# Altium footprint library Project_Oshinoko.PcbLib: 202 footprints (part 6 of 13)
Each footprint in its own frame and in the unit in brackets; x right, y up, seen from the top. Pads: shape width x height; smd on the part's side, far side on the other; paste and mask are expansions set on the pad; w line width, h text height; cw(c..) or ccw(c..) is an arc to the next point about the centre after c.
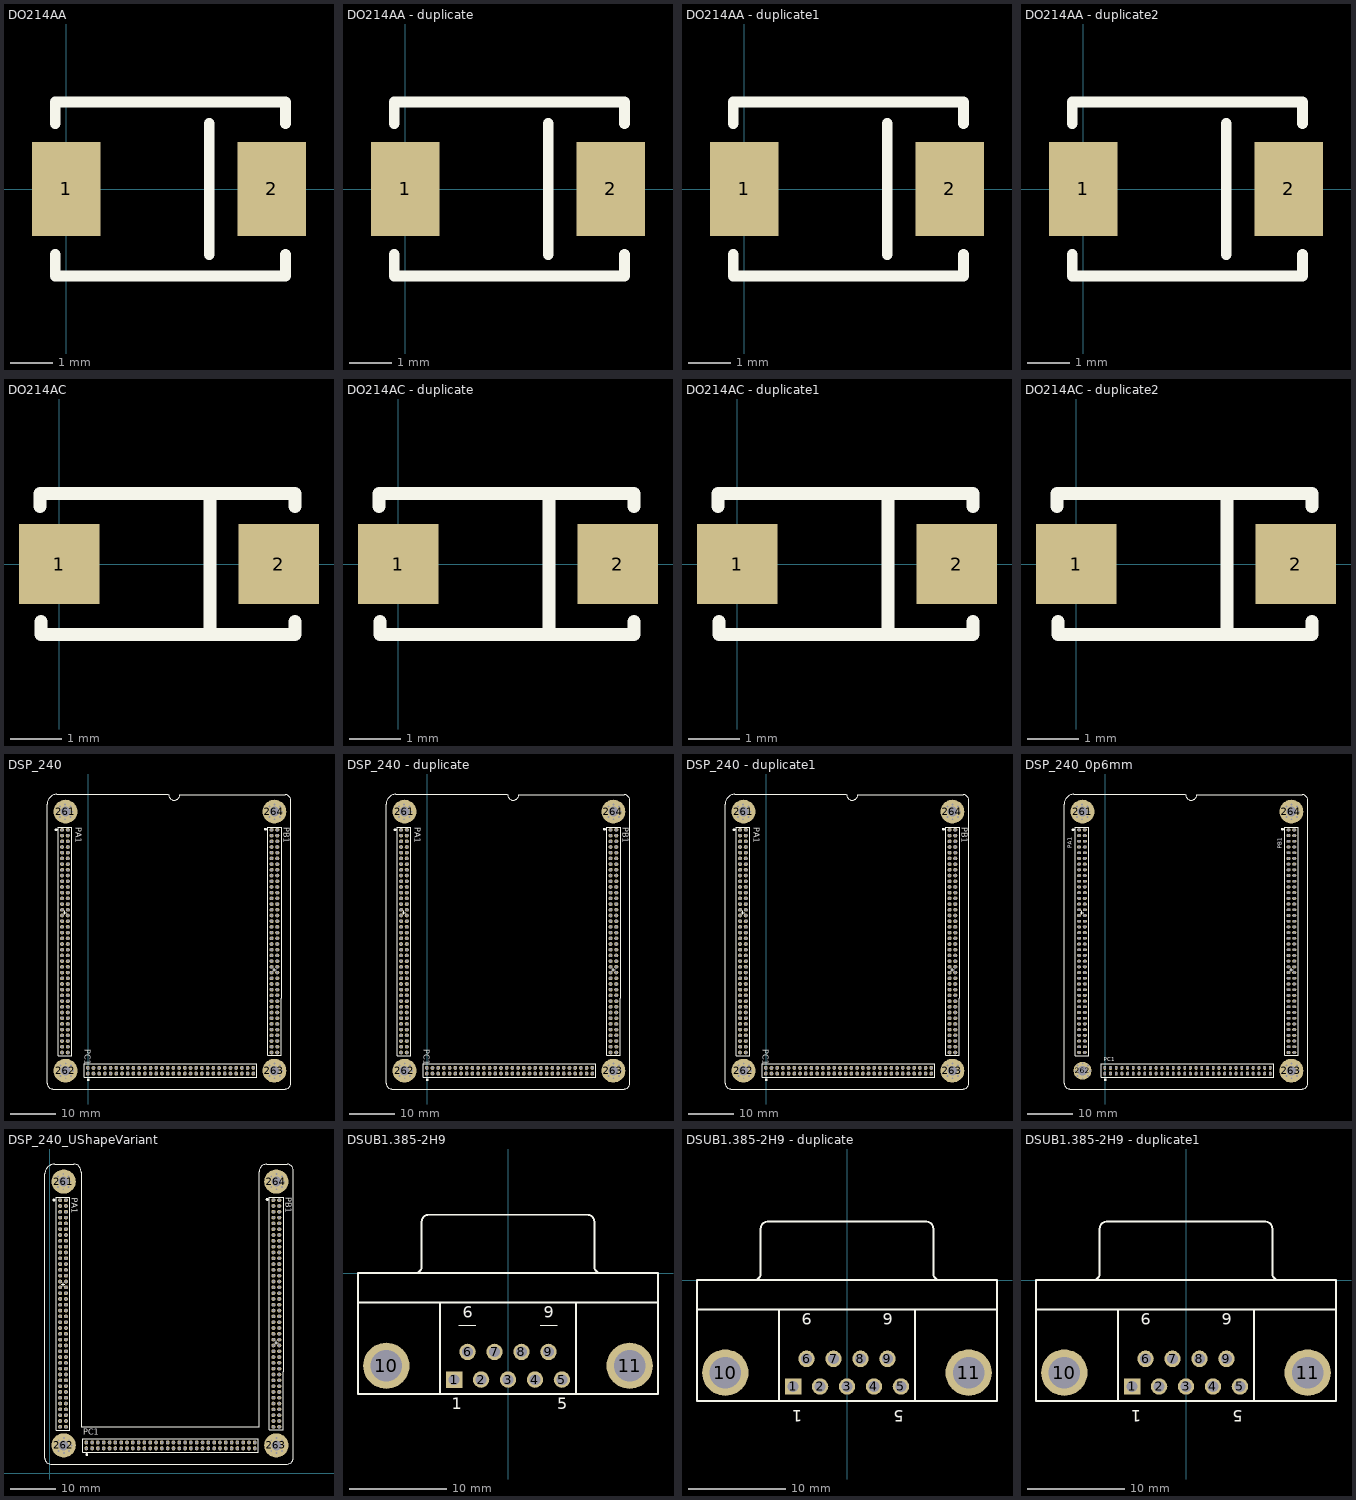
[diagram p5: the footprints below, top view; thin cyan lines are the x and y axes]

## DO214AA [mm]
pads (2):
  rect 1.6x2.2 smd: 1(-0.007,0.007) 2(4.793,0.007)
Top Overlay:
  lines w0.254: -0.261,-1.517 -0.261,-1.771 -0.261,-2.025 5.111,-2.025 5.111,-1.517 ; -0.261,1.531 -0.261,2.039 5.111,2.039 5.111,1.531 ; 3.333,-1.517 3.333,1.531

## DO214AA - duplicate [mm]
pads (2):
  rect 1.6x2.2 smd: 1(-0.007,0.007) 2(4.793,0.007)
Top Overlay:
  lines w0.254: -0.261,-1.517 -0.261,-1.771 -0.261,-2.025 5.111,-2.025 5.111,-1.517 ; -0.261,1.531 -0.261,2.039 5.111,2.039 5.111,1.531 ; 3.333,-1.517 3.333,1.531

## DO214AA - duplicate1 [mm]
pads (2):
  rect 1.6x2.2 smd: 1(-0.007,0.007) 2(4.793,0.007)
Top Overlay:
  lines w0.254: -0.261,-1.517 -0.261,-1.771 -0.261,-2.025 5.111,-2.025 5.111,-1.517 ; -0.261,1.531 -0.261,2.039 5.111,2.039 5.111,1.531 ; 3.333,-1.517 3.333,1.531

## DO214AA - duplicate2 [mm]
pads (2):
  rect 1.6x2.2 smd: 1(-0.007,0.007) 2(4.793,0.007)
Top Overlay:
  lines w0.254: -0.261,-1.517 -0.261,-1.771 -0.261,-2.025 5.111,-2.025 5.111,-1.517 ; -0.261,1.531 -0.261,2.039 5.111,2.039 5.111,1.531 ; 3.333,-1.517 3.333,1.531

## DO214AC [mil]
pads (2):
  rect 62x62 smd: 1(-0.04,0.18) 2(169.25,0.18)
Top Overlay:
  lines w10: -14.68,44.59 -14.68,54.59 181.78,54.59 181.78,44.59 ; -13.97,-44.23 -13.97,-54.23 181.78,-54.23 181.78,-44.23 ; 116.11,-54.23 116.11,54.59

## DO214AC - duplicate [mil]
pads (2):
  rect 62x62 smd: 1(-0.04,0.18) 2(169.25,0.18)
Top Overlay:
  lines w10: -14.68,44.59 -14.68,54.59 181.78,54.59 181.78,44.59 ; -13.97,-44.23 -13.97,-54.23 181.78,-54.23 181.78,-44.23 ; 116.11,-54.23 116.11,54.59

## DO214AC - duplicate1 [mil]
pads (2):
  rect 62x62 smd: 1(-0.04,0.18) 2(169.25,0.18)
Top Overlay:
  lines w10: -14.68,44.59 -14.68,54.59 181.78,54.59 181.78,44.59 ; -13.97,-44.23 -13.97,-54.23 181.78,-54.23 181.78,-44.23 ; 116.11,-54.23 116.11,54.59

## DO214AC - duplicate2 [mil]
pads (2):
  rect 62x62 smd: 1(-0.04,0.18) 2(169.25,0.18)
Top Overlay:
  lines w10: -14.68,44.59 -14.68,54.59 181.78,54.59 181.78,44.59 ; -13.97,-44.23 -13.97,-54.23 181.78,-54.23 181.78,-44.23 ; 116.11,-54.23 116.11,54.59

## DSP_240 [mil]
pads (224):
  oval 36x31.5 hole 25.59: 1(-230,2660) 2(-180,2660) 3(-230,2610) 4(-180,2610) 5(-230,2560) 6(-180,2560) 7(-230,2510) 8(-180,2510) 9(-230,2460) 10(-180,2460) 11(-230,2410) 12(-180,2410) 13(-230,2360) 14(-180,2360) 15(-230,2310) 16(-180,2310) 17(-230,2260) 18(-180,2260) 19(-230,2210) 20(-180,2210) 21(-230,2160) 22(-180,2160) 23(-230,2110) 24(-180,2110) 25(-230,2060) 26(-180,2060) 27(-230,2010) 28(-180,2010) 29(-230,1960) 30(-180,1960) 31(-230,1910) 32(-180,1910) 33(-230,1860) 34(-180,1860) 35(-230,1810) 36(-180,1810) 37(-230,1760) 38(-180,1760) 39(-230,1710) 40(-180,1710) 41(-230,1660) 42(-180,1660) 43(-230,1610) 44(-180,1610) 45(-230,1560) 46(-180,1560) 47(-230,1510) 48(-180,1510) 49(-230,1460) 50(-180,1460) 51(-230,1410) 52(-180,1410) 53(-230,1360) 54(-180,1360) 55(-230,1310) 56(-180,1310) 57(-230,1260) 58(-180,1260) 59(-230,1210) 60(-180,1210) 61(-230,1160) 62(-180,1160) 63(-230,1110) 64(-180,1110) 65(-230,1060) 66(-180,1060) 67(-230,1010) 68(-180,1010) 69(-230,960) 70(-180,960) 71(-230,910) 72(-180,910) 73(-230,860) 74(-180,860) 75(-230,810) 76(-180,810) 77(-230,760) 78(-180,760) 79(-230,710) 80(-180,710) 81(1605,2660) 82(1655,2660) 83(1605,2610) 84(1655,2610) 85(1605,2560) 86(1655,2560) 87(1605,2510) 88(1655,2510) 89(1605,2460) 90(1655,2460) 91(1605,2410) 92(1655,2410) 93(1605,2360) 94(1655,2360) 95(1605,2310) 96(1655,2310) 97(1605,2260) 98(1655,2260) 99(1605,2210) 100(1655,2210) 101(1605,2160) 102(1655,2160) 103(1605,2110) 104(1655,2110) 105(1605,2060) 106(1655,2060) 107(1605,2010) 108(1655,2010) 109(1605,1960) 110(1655,1960) 111(1605,1910) 112(1655,1910) 113(1605,1860) 114(1655,1860) 115(1605,1810) 116(1655,1810) 117(1605,1760) 118(1655,1760) 119(1605,1710) 120(1655,1710) 121(1605,1660) 122(1655,1660) 123(1605,1610) 124(1655,1610) 125(1605,1560) 126(1655,1560) 127(1605,1510) 128(1655,1510) 129(1605,1460) 130(1655,1460) 131(1605,1410) 132(1655,1410) 133(1605,1360) 134(1655,1360) 135(1605,1310) 136(1655,1310) 137(1605,1260) 138(1655,1260) 139(1605,1210) 140(1655,1210) 141(1605,1160) 142(1655,1160) 143(1605,1110) 144(1655,1110) 145(1605,1060) 146(1655,1060) 147(1605,1010) 148(1655,1010) 149(1605,960) 150(1655,960) 151(1605,910) 152(1655,910) 153(1605,860) 154(1655,860) 155(1605,810) 156(1655,810) 157(1605,760) 158(1655,760) 159(1605,710) 160(1655,710)
  oval 31.5x36 hole 25.59: 161(-5,525) 162(-5,575) 163(45,525) 164(45,575) 165(95,525) 166(95,575) 167(145,525) 168(145,575) 169(195,525) 170(195,575) 171(245,525) 172(245,575) 173(295,525) 174(295,575) 175(345,525) 176(345,575) 177(395,525) 178(395,575) 179(445,525) 180(445,575) 181(495,525) 182(495,575) 183(545,525) 184(545,575) 185(595,525) 186(595,575) 187(645,525) 188(645,575) 189(695,525) 190(695,575) 191(745,525) 192(745,575) 193(795,525) 194(795,575) 195(845,525) 196(845,575) 197(895,525) 198(895,575) 199(945,525) 200(945,575) 201(995,525) 202(995,575) 203(1045,525) 204(1045,575) 205(1095,525) 206(1095,575) 207(1145,525) 208(1145,575) 209(1195,525) 210(1195,575) 211(1245,525) 212(1245,575) 213(1295,525) 214(1295,575) 215(1345,525) 216(1345,575) 217(1395,525) 218(1395,575) 219(1445,525) 220(1445,575)
  round 208.66 hole 86.61: 261(-200,2820) 262(-200,550) 263(1630,550) 264(1630,2820)
via 1677.62,2772.66 diameter 25 hole 16
via 1566.65,2818.62 diameter 25 hole 16
via 1631.65,2753.62 diameter 25 hole 16
via 1696.65,2818.62 diameter 25 hole 16
via 1585.69,2864.58 diameter 25 hole 16
via 1585.69,2772.66 diameter 25 hole 16
via 1677.62,2864.58 diameter 25 hole 16
via 1631.65,2883.62 diameter 25 hole 16
via 1677.62,502.66 diameter 25 hole 16
via 1566.65,548.62 diameter 25 hole 16
via 1631.65,483.62 diameter 25 hole 16
via 1696.65,548.62 diameter 25 hole 16
via 1585.69,594.58 diameter 25 hole 16
via 1585.69,502.66 diameter 25 hole 16
via 1677.62,594.58 diameter 25 hole 16
via 1631.65,613.62 diameter 25 hole 16
via -198.35,613.62 diameter 25 hole 16
via -152.38,594.58 diameter 25 hole 16
via -244.31,502.66 diameter 25 hole 16
via -244.31,594.58 diameter 25 hole 16
via -133.35,548.62 diameter 25 hole 16
via -198.35,483.62 diameter 25 hole 16
via -263.35,548.62 diameter 25 hole 16
via -152.38,502.66 diameter 25 hole 16
via -203.35,2883.62 diameter 25 hole 16
via -157.38,2864.58 diameter 25 hole 16
via -157.38,2772.66 diameter 25 hole 16
via -249.31,2772.66 diameter 25 hole 16
via -249.31,2864.58 diameter 25 hole 16
via -138.35,2818.62 diameter 25 hole 16
via -203.35,2753.62 diameter 25 hole 16
via -268.35,2818.62 diameter 25 hole 16
Top Overlay:
  circle w15: c-1,471 r5
  circle w15: c1551,2666 r5
  circle w15: c-284,2661 r5
  lines w5: -360.83,2135 -360.83,2885.3 cw(c-275.11,2885.3) -275.11,2971.01 701.46,2971.01 ; -360.83,2151.1 -360.83,440 ccw(c-310.83,440) -310.83,390 199.35,390 1725,390 ; 702.68,2968.9 ccw(c751.89,2968.9) 801.1,2968.9 1723.9,2968.9 cw(c1723.9,2918.9) 1773.9,2918.9 1773.9,2151.1 1773.9,440 cw(c1723.9,440) 1723.9,390
  lines w6: -220,1935 -190,1935 ; -205,1920 -205,1935 -205,1950 ; 1615,1435 1645,1435 ; 1630,1420 1630,1435 1630,1450
  lines w8: -264.06,680 -264.06,1185 -264.06,2685 -145.94,2685 -145.94,1185 -145.94,680 -264.06,680 ; -35,490.94 -35,609.06 1475,609.06 1475,490.94 -35,490.94 ; 1570.94,685 1689.06,685 1689.06,1185 1689.06,2685 1570.94,2685 1570.94,1185 1570.94,685
  text "PC1" at -30,740 h50
  text "PB1" at 1710,2685 h50
  text "PA1" at -110,2685 h50

## DSP_240 - duplicate [mil]
pads (224):
  oval 36x31.5 hole 25.59: 1(-230,2660) 2(-180,2660) 3(-230,2610) 4(-180,2610) 5(-230,2560) 6(-180,2560) 7(-230,2510) 8(-180,2510) 9(-230,2460) 10(-180,2460) 11(-230,2410) 12(-180,2410) 13(-230,2360) 14(-180,2360) 15(-230,2310) 16(-180,2310) 17(-230,2260) 18(-180,2260) 19(-230,2210) 20(-180,2210) 21(-230,2160) 22(-180,2160) 23(-230,2110) 24(-180,2110) 25(-230,2060) 26(-180,2060) 27(-230,2010) 28(-180,2010) 29(-230,1960) 30(-180,1960) 31(-230,1910) 32(-180,1910) 33(-230,1860) 34(-180,1860) 35(-230,1810) 36(-180,1810) 37(-230,1760) 38(-180,1760) 39(-230,1710) 40(-180,1710) 41(-230,1660) 42(-180,1660) 43(-230,1610) 44(-180,1610) 45(-230,1560) 46(-180,1560) 47(-230,1510) 48(-180,1510) 49(-230,1460) 50(-180,1460) 51(-230,1410) 52(-180,1410) 53(-230,1360) 54(-180,1360) 55(-230,1310) 56(-180,1310) 57(-230,1260) 58(-180,1260) 59(-230,1210) 60(-180,1210) 61(-230,1160) 62(-180,1160) 63(-230,1110) 64(-180,1110) 65(-230,1060) 66(-180,1060) 67(-230,1010) 68(-180,1010) 69(-230,960) 70(-180,960) 71(-230,910) 72(-180,910) 73(-230,860) 74(-180,860) 75(-230,810) 76(-180,810) 77(-230,760) 78(-180,760) 79(-230,710) 80(-180,710) 81(1605,2660) 82(1655,2660) 83(1605,2610) 84(1655,2610) 85(1605,2560) 86(1655,2560) 87(1605,2510) 88(1655,2510) 89(1605,2460) 90(1655,2460) 91(1605,2410) 92(1655,2410) 93(1605,2360) 94(1655,2360) 95(1605,2310) 96(1655,2310) 97(1605,2260) 98(1655,2260) 99(1605,2210) 100(1655,2210) 101(1605,2160) 102(1655,2160) 103(1605,2110) 104(1655,2110) 105(1605,2060) 106(1655,2060) 107(1605,2010) 108(1655,2010) 109(1605,1960) 110(1655,1960) 111(1605,1910) 112(1655,1910) 113(1605,1860) 114(1655,1860) 115(1605,1810) 116(1655,1810) 117(1605,1760) 118(1655,1760) 119(1605,1710) 120(1655,1710) 121(1605,1660) 122(1655,1660) 123(1605,1610) 124(1655,1610) 125(1605,1560) 126(1655,1560) 127(1605,1510) 128(1655,1510) 129(1605,1460) 130(1655,1460) 131(1605,1410) 132(1655,1410) 133(1605,1360) 134(1655,1360) 135(1605,1310) 136(1655,1310) 137(1605,1260) 138(1655,1260) 139(1605,1210) 140(1655,1210) 141(1605,1160) 142(1655,1160) 143(1605,1110) 144(1655,1110) 145(1605,1060) 146(1655,1060) 147(1605,1010) 148(1655,1010) 149(1605,960) 150(1655,960) 151(1605,910) 152(1655,910) 153(1605,860) 154(1655,860) 155(1605,810) 156(1655,810) 157(1605,760) 158(1655,760) 159(1605,710) 160(1655,710)
  oval 31.5x36 hole 25.59: 161(-5,525) 162(-5,575) 163(45,525) 164(45,575) 165(95,525) 166(95,575) 167(145,525) 168(145,575) 169(195,525) 170(195,575) 171(245,525) 172(245,575) 173(295,525) 174(295,575) 175(345,525) 176(345,575) 177(395,525) 178(395,575) 179(445,525) 180(445,575) 181(495,525) 182(495,575) 183(545,525) 184(545,575) 185(595,525) 186(595,575) 187(645,525) 188(645,575) 189(695,525) 190(695,575) 191(745,525) 192(745,575) 193(795,525) 194(795,575) 195(845,525) 196(845,575) 197(895,525) 198(895,575) 199(945,525) 200(945,575) 201(995,525) 202(995,575) 203(1045,525) 204(1045,575) 205(1095,525) 206(1095,575) 207(1145,525) 208(1145,575) 209(1195,525) 210(1195,575) 211(1245,525) 212(1245,575) 213(1295,525) 214(1295,575) 215(1345,525) 216(1345,575) 217(1395,525) 218(1395,575) 219(1445,525) 220(1445,575)
  round 208.66 hole 86.61: 261(-200,2820) 262(-200,550) 263(1630,550) 264(1630,2820)
via -268.35,2818.62 diameter 25 hole 16
via -203.35,2753.62 diameter 25 hole 16
via -138.35,2818.62 diameter 25 hole 16
via -249.31,2864.58 diameter 25 hole 16
via -249.31,2772.66 diameter 25 hole 16
via -157.38,2772.66 diameter 25 hole 16
via -157.38,2864.58 diameter 25 hole 16
via -203.35,2883.62 diameter 25 hole 16
via -152.38,502.66 diameter 25 hole 16
via -263.35,548.62 diameter 25 hole 16
via -198.35,483.62 diameter 25 hole 16
via -133.35,548.62 diameter 25 hole 16
via -244.31,594.58 diameter 25 hole 16
via -244.31,502.66 diameter 25 hole 16
via -152.38,594.58 diameter 25 hole 16
via -198.35,613.62 diameter 25 hole 16
via 1631.65,613.62 diameter 25 hole 16
via 1677.62,594.58 diameter 25 hole 16
via 1585.69,502.66 diameter 25 hole 16
via 1585.69,594.58 diameter 25 hole 16
via 1696.65,548.62 diameter 25 hole 16
via 1631.65,483.62 diameter 25 hole 16
via 1566.65,548.62 diameter 25 hole 16
via 1677.62,502.66 diameter 25 hole 16
via 1631.65,2883.62 diameter 25 hole 16
via 1677.62,2864.58 diameter 25 hole 16
via 1585.69,2772.66 diameter 25 hole 16
via 1585.69,2864.58 diameter 25 hole 16
via 1696.65,2818.62 diameter 25 hole 16
via 1631.65,2753.62 diameter 25 hole 16
via 1566.65,2818.62 diameter 25 hole 16
via 1677.62,2772.66 diameter 25 hole 16
Top Overlay:
  circle w15: c-284,2661 r5
  circle w15: c1551,2666 r5
  circle w15: c-1,471 r5
  lines w5: -360.83,2135 -360.83,2885.3 cw(c-275.11,2885.3) -275.11,2971.01 701.46,2971.01 ; -360.83,2151.1 -360.83,440 ccw(c-310.83,440) -310.83,390 199.35,390 1725,390 ; 702.68,2968.9 ccw(c751.89,2968.9) 801.1,2968.9 1723.9,2968.9 cw(c1723.9,2918.9) 1773.9,2918.9 1773.9,2151.1 1773.9,440 cw(c1723.9,440) 1723.9,390
  lines w6: -220,1935 -190,1935 ; -205,1920 -205,1935 -205,1950 ; 1615,1435 1645,1435 ; 1630,1420 1630,1435 1630,1450
  lines w8: -264.06,680 -145.94,680 -145.94,1185 -145.94,2685 -264.06,2685 -264.06,1185 -264.06,680 ; -35,490.94 1475,490.94 1475,609.06 -35,609.06 -35,490.94 ; 1570.94,685 1570.94,1185 1570.94,2685 1689.06,2685 1689.06,1185 1689.06,685 1570.94,685
  text "PA1" at -110,2685 h50
  text "PB1" at 1710,2685 h50
  text "PC1" at -30,740 h50

## DSP_240 - duplicate1 [mil]
pads (224):
  oval 36x31.5 hole 25.59: 1(-230,2660) 2(-180,2660) 3(-230,2610) 4(-180,2610) 5(-230,2560) 6(-180,2560) 7(-230,2510) 8(-180,2510) 9(-230,2460) 10(-180,2460) 11(-230,2410) 12(-180,2410) 13(-230,2360) 14(-180,2360) 15(-230,2310) 16(-180,2310) 17(-230,2260) 18(-180,2260) 19(-230,2210) 20(-180,2210) 21(-230,2160) 22(-180,2160) 23(-230,2110) 24(-180,2110) 25(-230,2060) 26(-180,2060) 27(-230,2010) 28(-180,2010) 29(-230,1960) 30(-180,1960) 31(-230,1910) 32(-180,1910) 33(-230,1860) 34(-180,1860) 35(-230,1810) 36(-180,1810) 37(-230,1760) 38(-180,1760) 39(-230,1710) 40(-180,1710) 41(-230,1660) 42(-180,1660) 43(-230,1610) 44(-180,1610) 45(-230,1560) 46(-180,1560) 47(-230,1510) 48(-180,1510) 49(-230,1460) 50(-180,1460) 51(-230,1410) 52(-180,1410) 53(-230,1360) 54(-180,1360) 55(-230,1310) 56(-180,1310) 57(-230,1260) 58(-180,1260) 59(-230,1210) 60(-180,1210) 61(-230,1160) 62(-180,1160) 63(-230,1110) 64(-180,1110) 65(-230,1060) 66(-180,1060) 67(-230,1010) 68(-180,1010) 69(-230,960) 70(-180,960) 71(-230,910) 72(-180,910) 73(-230,860) 74(-180,860) 75(-230,810) 76(-180,810) 77(-230,760) 78(-180,760) 79(-230,710) 80(-180,710) 81(1605,2660) 82(1655,2660) 83(1605,2610) 84(1655,2610) 85(1605,2560) 86(1655,2560) 87(1605,2510) 88(1655,2510) 89(1605,2460) 90(1655,2460) 91(1605,2410) 92(1655,2410) 93(1605,2360) 94(1655,2360) 95(1605,2310) 96(1655,2310) 97(1605,2260) 98(1655,2260) 99(1605,2210) 100(1655,2210) 101(1605,2160) 102(1655,2160) 103(1605,2110) 104(1655,2110) 105(1605,2060) 106(1655,2060) 107(1605,2010) 108(1655,2010) 109(1605,1960) 110(1655,1960) 111(1605,1910) 112(1655,1910) 113(1605,1860) 114(1655,1860) 115(1605,1810) 116(1655,1810) 117(1605,1760) 118(1655,1760) 119(1605,1710) 120(1655,1710) 121(1605,1660) 122(1655,1660) 123(1605,1610) 124(1655,1610) 125(1605,1560) 126(1655,1560) 127(1605,1510) 128(1655,1510) 129(1605,1460) 130(1655,1460) 131(1605,1410) 132(1655,1410) 133(1605,1360) 134(1655,1360) 135(1605,1310) 136(1655,1310) 137(1605,1260) 138(1655,1260) 139(1605,1210) 140(1655,1210) 141(1605,1160) 142(1655,1160) 143(1605,1110) 144(1655,1110) 145(1605,1060) 146(1655,1060) 147(1605,1010) 148(1655,1010) 149(1605,960) 150(1655,960) 151(1605,910) 152(1655,910) 153(1605,860) 154(1655,860) 155(1605,810) 156(1655,810) 157(1605,760) 158(1655,760) 159(1605,710) 160(1655,710)
  oval 31.5x36 hole 25.59: 161(-5,525) 162(-5,575) 163(45,525) 164(45,575) 165(95,525) 166(95,575) 167(145,525) 168(145,575) 169(195,525) 170(195,575) 171(245,525) 172(245,575) 173(295,525) 174(295,575) 175(345,525) 176(345,575) 177(395,525) 178(395,575) 179(445,525) 180(445,575) 181(495,525) 182(495,575) 183(545,525) 184(545,575) 185(595,525) 186(595,575) 187(645,525) 188(645,575) 189(695,525) 190(695,575) 191(745,525) 192(745,575) 193(795,525) 194(795,575) 195(845,525) 196(845,575) 197(895,525) 198(895,575) 199(945,525) 200(945,575) 201(995,525) 202(995,575) 203(1045,525) 204(1045,575) 205(1095,525) 206(1095,575) 207(1145,525) 208(1145,575) 209(1195,525) 210(1195,575) 211(1245,525) 212(1245,575) 213(1295,525) 214(1295,575) 215(1345,525) 216(1345,575) 217(1395,525) 218(1395,575) 219(1445,525) 220(1445,575)
  round 208.66 hole 86.61: 261(-200,2820) 262(-200,550) 263(1630,550) 264(1630,2820)
via 1677.62,2772.66 diameter 25 hole 16
via 1566.65,2818.62 diameter 25 hole 16
via 1631.65,2753.62 diameter 25 hole 16
via 1696.65,2818.62 diameter 25 hole 16
via 1585.69,2864.58 diameter 25 hole 16
via 1585.69,2772.66 diameter 25 hole 16
via 1677.62,2864.58 diameter 25 hole 16
via 1631.65,2883.62 diameter 25 hole 16
via 1677.62,502.66 diameter 25 hole 16
via 1566.65,548.62 diameter 25 hole 16
via 1631.65,483.62 diameter 25 hole 16
via 1696.65,548.62 diameter 25 hole 16
via 1585.69,594.58 diameter 25 hole 16
via 1585.69,502.66 diameter 25 hole 16
via 1677.62,594.58 diameter 25 hole 16
via 1631.65,613.62 diameter 25 hole 16
via -198.35,613.62 diameter 25 hole 16
via -152.38,594.58 diameter 25 hole 16
via -244.31,502.66 diameter 25 hole 16
via -244.31,594.58 diameter 25 hole 16
via -133.35,548.62 diameter 25 hole 16
via -198.35,483.62 diameter 25 hole 16
via -263.35,548.62 diameter 25 hole 16
via -152.38,502.66 diameter 25 hole 16
via -203.35,2883.62 diameter 25 hole 16
via -157.38,2864.58 diameter 25 hole 16
via -157.38,2772.66 diameter 25 hole 16
via -249.31,2772.66 diameter 25 hole 16
via -249.31,2864.58 diameter 25 hole 16
via -138.35,2818.62 diameter 25 hole 16
via -203.35,2753.62 diameter 25 hole 16
via -268.35,2818.62 diameter 25 hole 16
Top Overlay:
  circle w15: c-1,471 r5
  circle w15: c1551,2666 r5
  circle w15: c-284,2661 r5
  lines w5: -360.83,2135 -360.83,2885.3 cw(c-275.11,2885.3) -275.11,2971.01 701.46,2971.01 ; -360.83,2151.1 -360.83,440 ccw(c-310.83,440) -310.83,390 199.35,390 1725,390 ; 702.68,2968.9 ccw(c751.89,2968.9) 801.1,2968.9 1723.9,2968.9 cw(c1723.9,2918.9) 1773.9,2918.9 1773.9,2151.1 1773.9,440 cw(c1723.9,440) 1723.9,390
  lines w6: -220,1935 -190,1935 ; -205,1920 -205,1935 -205,1950 ; 1615,1435 1645,1435 ; 1630,1420 1630,1435 1630,1450
  lines w8: -264.06,680 -264.06,1185 -264.06,2685 -145.94,2685 -145.94,1185 -145.94,680 -264.06,680 ; -35,490.94 -35,609.06 1475,609.06 1475,490.94 -35,490.94 ; 1570.94,685 1689.06,685 1689.06,1185 1689.06,2685 1570.94,2685 1570.94,1185 1570.94,685
  text "PC1" at -30,740 h50
  text "PB1" at 1710,2685 h50
  text "PA1" at -110,2685 h50

## DSP_240_0p6mm [mil] "The hole size is reduced to 0.6 mm"
pads (224):
  oval 36x25 hole 23.62: 1(-230,2660) 2(-180,2660) 3(-230,2610) 4(-180,2610) 5(-230,2560) 6(-180,2560) 7(-230,2510) 8(-180,2510) 9(-230,2460) 10(-180,2460) 11(-230,2410) 12(-180,2410) 13(-230,2360) 14(-180,2360) 15(-230,2310) 16(-180,2310) 17(-230,2260) 18(-180,2260) 19(-230,2210) 20(-180,2210) 21(-230,2160) 22(-180,2160) 23(-230,2110) 24(-180,2110) 25(-230,2060) 26(-180,2060) 27(-230,2010) 28(-180,2010) 29(-230,1960) 30(-180,1960) 31(-230,1910) 32(-180,1910) 33(-230,1860) 34(-180,1860) 35(-230,1810) 36(-180,1810) 37(-230,1760) 38(-180,1760) 39(-230,1710) 40(-180,1710) 41(-230,1660) 42(-180,1660) 43(-230,1610) 44(-180,1610) 45(-230,1560) 46(-180,1560) 47(-230,1510) 48(-180,1510) 49(-230,1460) 50(-180,1460) 51(-230,1410) 52(-180,1410) 53(-230,1360) 54(-180,1360) 55(-230,1310) 56(-180,1310) 57(-230,1260) 58(-180,1260) 59(-230,1210) 60(-180,1210) 61(-230,1160) 62(-180,1160) 63(-230,1110) 64(-180,1110) 65(-230,1060) 66(-180,1060) 67(-230,1010) 68(-180,1010) 69(-230,960) 70(-180,960) 71(-230,910) 72(-180,910) 73(-230,860) 74(-180,860) 75(-230,810) 76(-180,810) 77(-230,760) 78(-180,760) 79(-230,710) 80(-180,710) 83(1605,2610) 84(1655,2610) 85(1605,2560) 86(1655,2560) 87(1605,2510) 88(1655,2510) 89(1605,2460) 90(1655,2460) 91(1605,2410) 92(1655,2410) 93(1605,2360) 94(1655,2360) 95(1605,2310) 96(1655,2310) 97(1605,2260) 98(1655,2260) 99(1605,2210) 100(1655,2210) 101(1605,2160) 102(1655,2160) 103(1605,2110) 104(1655,2110) 105(1605,2060) 106(1655,2060) 107(1605,2010) 108(1655,2010) 109(1605,1960) 110(1655,1960) 111(1605,1910) 112(1655,1910) 113(1605,1860) 114(1655,1860) 115(1605,1810) 116(1655,1810) 117(1605,1760) 118(1655,1760) 119(1605,1710) 120(1655,1710) 121(1605,1660) 122(1655,1660) 123(1605,1610) 124(1655,1610) 125(1605,1560) 126(1655,1560) 127(1605,1510) 128(1655,1510) 129(1605,1460) 130(1655,1460) 131(1605,1410) 132(1655,1410) 133(1605,1360) 134(1655,1360) 135(1605,1310) 136(1655,1310) 137(1605,1260) 138(1655,1260) 139(1605,1210) 140(1655,1210) 141(1605,1160) 142(1655,1160) 143(1605,1110) 144(1655,1110) 145(1605,1060) 146(1655,1060) 147(1605,1010) 148(1655,1010) 149(1605,960) 150(1655,960) 151(1605,910) 152(1655,910) 153(1605,860) 154(1655,860) 155(1605,810) 156(1655,810) 157(1605,760) 158(1655,760) 159(1605,710) 160(1655,710)
  oval 36x25 hole 25.59: 81(1605,2660) 82(1655,2660)
  oval 25x36 hole 23.62: 161(-5,525) 162(-5,575) 163(45,525) 164(45,575) 165(95,525) 166(95,575) 167(145,525) 168(145,575) 169(195,525) 170(195,575) 171(245,525) 172(245,575) 173(295,525) 174(295,575) 175(345,525) 176(345,575) 177(395,525) 179(445,525) 180(445,575) 181(495,525) 182(495,575) 183(545,525) 184(545,575) 185(595,525) 186(595,575) 187(645,525) 188(645,575) 189(695,525) 190(695,575) 191(745,525) 192(745,575) 193(795,525) 194(795,575) 195(845,525) 196(845,575) 197(895,525) 198(895,575) 199(945,525) 200(945,575) 201(995,525) 202(995,575) 203(1045,525) 204(1045,575) 205(1095,525) 206(1095,575) 207(1145,525) 208(1145,575) 209(1195,525) 210(1195,575) 211(1245,525) 212(1245,575) 213(1295,525) 214(1295,575) 215(1345,525) 216(1345,575) 217(1395,525) 218(1395,575) 219(1445,525) 220(1445,575)
  oval 25x36 hole 23.62 paste+0: 178(395,575)
  round 208.66 hole 86.61: 261(-200,2820) 263(1630,550) 264(1630,2820)
  round 156.66 hole 86.61: 262(-200,550)
via 1677.62,2772.66 diameter 25 hole 16
via 1566.65,2818.62 diameter 25 hole 16
via 1631.65,2753.62 diameter 25 hole 16
via 1696.65,2818.62 diameter 25 hole 16
via 1585.69,2864.58 diameter 25 hole 16
via 1585.69,2772.66 diameter 25 hole 16
via 1677.62,2864.58 diameter 25 hole 16
via 1631.65,2883.62 diameter 25 hole 16
via 1677.62,502.66 diameter 25 hole 16
via 1566.65,548.62 diameter 25 hole 16
via 1631.65,483.62 diameter 25 hole 16
via 1696.65,548.62 diameter 25 hole 16
via 1585.69,594.58 diameter 25 hole 16
via 1585.69,502.66 diameter 25 hole 16
via 1677.62,594.58 diameter 25 hole 16
via 1631.65,613.62 diameter 25 hole 16
via -198.35,613.62 diameter 25 hole 16
via -152.38,594.58 diameter 25 hole 16
via -244.31,502.66 diameter 25 hole 16
via -244.31,594.58 diameter 25 hole 16
via -133.35,548.62 diameter 25 hole 16
via -198.35,483.62 diameter 25 hole 16
via -263.35,548.62 diameter 25 hole 16
via -152.38,502.66 diameter 25 hole 16
via -138.35,2818.62 diameter 25 hole 16
via -268.35,2818.62 diameter 25 hole 16
via -203.35,2883.62 diameter 25 hole 16
via -249.31,2864.58 diameter 25 hole 16
via -157.38,2864.58 diameter 25 hole 16
via -203.35,2753.62 diameter 25 hole 16
via -249.31,2772.66 diameter 25 hole 16
via -157.38,2772.66 diameter 25 hole 16
Top Overlay:
  circle w15: c-1,471 r5
  circle w15: c1551,2666 r5
  circle w15: c-284,2661 r5
  lines w5: -360.83,2135 -360.83,2885.3 cw(c-275.11,2885.3) -275.11,2971.01 701.46,2971.01 ; -360.83,2151.1 -360.83,440 ccw(c-310.83,440) -310.83,390 199.35,390 1725,390 ; 702.68,2968.9 ccw(c751.89,2968.9) 801.1,2968.9 1723.9,2968.9 cw(c1723.9,2918.9) 1773.9,2918.9 1773.9,2151.1 1773.9,440 cw(c1723.9,440) 1723.9,390
  lines w6: -220,1935 -190,1935 ; -205,1920 -205,1935 -205,1950 ; 1615,1435 1645,1435 ; 1630,1420 1630,1435 1630,1450
  lines w8: -264.06,680 -264.06,1185 -264.06,2685 -145.94,2685 -145.94,1185 -145.94,680 -264.06,680 ; -35,490.94 -35,609.06 1475,609.06 1475,490.94 -35,490.94 ; 1570.94,685 1689.06,685 1689.06,1185 1689.06,2685 1570.94,2685 1570.94,1185 1570.94,685
  text "PC1" at -15,620 h60
  text "PB1" at 1557.2,2493 h60
  text "PA1" at -282.8,2498 h60

## DSP_240_UShapeVariant [mm]
pads (224):
  oval 0.914x0.8 hole 0.65: 1(2.286,59.69) 2(3.556,59.69) 3(2.286,58.42) 4(3.556,58.42) 5(2.286,57.15) 6(3.556,57.15) 7(2.286,55.88) 8(3.556,55.88) 9(2.286,54.61) 10(3.556,54.61) 11(2.286,53.34) 12(3.556,53.34) 13(2.286,52.07) 14(3.556,52.07) 15(2.286,50.8) 16(3.556,50.8) 17(2.286,49.53) 18(3.556,49.53) 19(2.286,48.26) 20(3.556,48.26) 21(2.286,46.99) 22(3.556,46.99) 23(2.286,45.72) 24(3.556,45.72) 25(2.286,44.45) 26(3.556,44.45) 27(2.286,43.18) 28(3.556,43.18) 29(2.286,41.91) 30(3.556,41.91) 31(2.286,40.64) 32(3.556,40.64) 33(2.286,39.37) 34(3.556,39.37) 35(2.286,38.1) 36(3.556,38.1) 37(2.286,36.83) 38(3.556,36.83) 39(2.286,35.56) 40(3.556,35.56) 41(2.286,34.29) 42(3.556,34.29) 43(2.286,33.02) 44(3.556,33.02) 45(2.286,31.75) 46(3.556,31.75) 47(2.286,30.48) 48(3.556,30.48) 49(2.286,29.21) 50(3.556,29.21) 51(2.286,27.94) 52(3.556,27.94) 53(2.286,26.67) 54(3.556,26.67) 55(2.286,25.4) 56(3.556,25.4) 57(2.286,24.13) 58(3.556,24.13) 59(2.286,22.86) 60(3.556,22.86) 61(2.286,21.59) 62(3.556,21.59) 63(2.286,20.32) 64(3.556,20.32) 65(2.286,19.05) 66(3.556,19.05) 67(2.286,17.78) 68(3.556,17.78) 69(2.286,16.51) 70(3.556,16.51) 71(2.286,15.24) 72(3.556,15.24) 73(2.286,13.97) 74(3.556,13.97) 75(2.286,12.7) 76(3.556,12.7) 77(2.286,11.43) 78(3.556,11.43) 79(2.286,10.16) 80(3.556,10.16) 81(48.895,59.69) 82(50.165,59.69) 83(48.895,58.42) 84(50.165,58.42) 85(48.895,57.15) 86(50.165,57.15) 87(48.895,55.88) 88(50.165,55.88) 89(48.895,54.61) 90(50.165,54.61) 91(48.895,53.34) 92(50.165,53.34) 93(48.895,52.07) 94(50.165,52.07) 95(48.895,50.8) 96(50.165,50.8) 97(48.895,49.53) 98(50.165,49.53) 99(48.895,48.26) 100(50.165,48.26) 101(48.895,46.99) 102(50.165,46.99) 103(48.895,45.72) 104(50.165,45.72) 105(48.895,44.45) 106(50.165,44.45) 107(48.895,43.18) 108(50.165,43.18) 109(48.895,41.91) 110(50.165,41.91) 111(48.895,40.64) 112(50.165,40.64) 113(48.895,39.37) 114(50.165,39.37) 115(48.895,38.1) 116(50.165,38.1) 117(48.895,36.83) 118(50.165,36.83) 119(48.895,35.56) 120(50.165,35.56) 121(48.895,34.29) 122(50.165,34.29) 123(48.895,33.02) 124(50.165,33.02) 125(48.895,31.75) 126(50.165,31.75) 127(48.895,30.48) 128(50.165,30.48) 129(48.895,29.21) 130(50.165,29.21) 131(48.895,27.94) 132(50.165,27.94) 133(48.895,26.67) 134(50.165,26.67) 135(48.895,25.4) 136(50.165,25.4) 137(48.895,24.13) 138(50.165,24.13) 139(48.895,22.86) 140(50.165,22.86) 141(48.895,21.59) 142(50.165,21.59) 143(48.895,20.32) 144(50.165,20.32) 145(48.895,19.05) 146(50.165,19.05) 147(48.895,17.78) 148(50.165,17.78) 149(48.895,16.51) 150(50.165,16.51) 151(48.895,15.24) 152(50.165,15.24) 153(48.895,13.97) 154(50.165,13.97) 155(48.895,12.7) 156(50.165,12.7) 157(48.895,11.43) 158(50.165,11.43) 159(48.895,10.16) 160(50.165,10.16)
  oval 0.8x0.914 hole 0.65: 161(8.001,5.461) 162(8.001,6.731) 163(9.271,5.461) 164(9.271,6.731) 165(10.541,5.461) 166(10.541,6.731) 167(11.811,5.461) 168(11.811,6.731) 169(13.081,5.461) 170(13.081,6.731) 171(14.351,5.461) 172(14.351,6.731) 173(15.621,5.461) 174(15.621,6.731) 175(16.891,5.461) 176(16.891,6.731) 177(18.161,5.461) 178(18.161,6.731) 179(19.431,5.461) 180(19.431,6.731) 181(20.701,5.461) 182(20.701,6.731) 183(21.971,5.461) 184(21.971,6.731) 185(23.241,5.461) 186(23.241,6.731) 187(24.511,5.461) 188(24.511,6.731) 189(25.781,5.461) 190(25.781,6.731) 191(27.051,5.461) 192(27.051,6.731) 193(28.321,5.461) 194(28.321,6.731) 195(29.591,5.461) 196(29.591,6.731) 197(30.861,5.461) 198(30.861,6.731) 199(32.131,5.461) 200(32.131,6.731) 201(33.401,5.461) 202(33.401,6.731) 203(34.671,5.461) 204(34.671,6.731) 205(35.941,5.461) 206(35.941,6.731) 207(37.211,5.461) 208(37.211,6.731) 209(38.481,5.461) 210(38.481,6.731) 211(39.751,5.461) 212(39.751,6.731) 213(41.021,5.461) 214(41.021,6.731) 215(42.291,5.461) 216(42.291,6.731) 217(43.561,5.461) 218(43.561,6.731) 219(44.831,5.461) 220(44.831,6.731)
  round 5.3 hole 2.2: 261(3.048,63.754) 262(3.048,6.096) 263(49.53,6.096) 264(49.53,63.754)
via 50.739,62.552 diameter 0.635 hole 0.406
via 47.921,63.719 diameter 0.635 hole 0.406
via 49.572,62.068 diameter 0.635 hole 0.406
via 51.223,63.719 diameter 0.635 hole 0.406
via 48.405,64.886 diameter 0.635 hole 0.406
via 48.405,62.552 diameter 0.635 hole 0.406
via 50.739,64.886 diameter 0.635 hole 0.406
via 49.572,65.37 diameter 0.635 hole 0.406
via 50.739,4.894 diameter 0.635 hole 0.406
via 47.921,6.061 diameter 0.635 hole 0.406
via 49.572,4.41 diameter 0.635 hole 0.406
via 51.223,6.061 diameter 0.635 hole 0.406
via 48.405,7.228 diameter 0.635 hole 0.406
via 48.405,4.894 diameter 0.635 hole 0.406
via 50.739,7.228 diameter 0.635 hole 0.406
via 49.572,7.712 diameter 0.635 hole 0.406
via 3.09,7.712 diameter 0.635 hole 0.406
via 4.257,7.228 diameter 0.635 hole 0.406
via 1.923,4.894 diameter 0.635 hole 0.406
via 1.923,7.228 diameter 0.635 hole 0.406
via 4.741,6.061 diameter 0.635 hole 0.406
via 3.09,4.41 diameter 0.635 hole 0.406
via 1.439,6.061 diameter 0.635 hole 0.406
via 4.257,4.894 diameter 0.635 hole 0.406
via 2.963,65.37 diameter 0.635 hole 0.406
via 4.13,64.886 diameter 0.635 hole 0.406
via 4.13,62.552 diameter 0.635 hole 0.406
via 1.796,62.552 diameter 0.635 hole 0.406
via 1.796,64.886 diameter 0.635 hole 0.406
via 4.614,63.719 diameter 0.635 hole 0.406
via 2.963,62.068 diameter 0.635 hole 0.406
via 1.312,63.719 diameter 0.635 hole 0.406
Top Overlay:
  circle w0.381: c8.103,4.089 r0.127
  circle w0.381: c47.523,59.842 r0.127
  circle w0.381: c0.914,59.715 r0.127
  lines w0.127: -1.037,46.355 -1.037,65.413 cw(c1.14,65.413) 1.14,67.59 5.207,67.59 cw(c5.207,65.934) 6.858,65.805 6.858,10.188 45.748,10.188 45.748,65.897 cw(c47.387,65.897) 47.387,67.536 51.915,67.536 cw(c51.915,66.266) 53.185,66.266 53.185,46.764 53.185,3.302 cw(c51.915,3.302) 51.915,2.032 ; -1.037,46.764 -1.037,3.302 ccw(c0.233,3.302) 0.233,2.032 13.191,2.032 51.943,2.032
  lines w0.152: 2.54,41.275 3.302,41.275 ; 2.921,40.894 2.921,41.275 2.921,41.656 ; 49.149,28.575 49.911,28.575 ; 49.53,28.194 49.53,28.575 49.53,28.956
  lines w0.203: 1.421,9.398 1.421,22.225 1.421,60.325 4.421,60.325 4.421,22.225 4.421,9.398 1.421,9.398 ; 7.239,4.596 7.239,7.596 45.593,7.596 45.593,4.596 7.239,4.596 ; 48.03,9.525 51.03,9.525 51.03,22.225 51.03,60.325 48.03,60.325 48.03,22.225 48.03,9.525
  text "PC1" at 7.366,8.382 h1.27
  text "PB1" at 51.562,60.325 h1.27
  text "PA1" at 4.826,60.198 h1.27

## DSUB1.385-2H9 [mm]
pads (11):
  rect 1.69x1.69 hole 1.09: 1(-5.54,-10.92)
  round 1.69 hole 1.09: 2(-2.77,-10.92) 3(0,-10.92) 4(2.77,-10.92) 5(5.54,-10.92) 6(-4.155,-8.08) 7(-1.385,-8.08) 8(1.385,-8.08) 9(4.155,-8.08)
  round 4.76 hole 3.26: 10(-12.495,-9.5) 11(12.495,-9.5)
Top Overlay:
  lines w0.127: -5.08,-5.334 -3.302,-5.334 ; 3.302,-5.334 5.08,-5.334
  lines w0.2: -15.4,-3 15.4,-3 ; -9.56,0.005 ccw(c-9.56,0.7) -8.865,0.7 -8.865,5.3 ; -8.86,5.305 cw(c-8.165,5.305) -8.165,6 8.165,6 cw(c8.165,5.305) 8.86,5.305 ; -7,-12.4 -7,-3 ; 7,-12.4 7,-3 ; 8.865,5.3 8.865,0.7 ccw(c9.56,0.7) 9.56,0.005 ; -15.4,-12.4 -15.4,0 15.4,0 15.4,-12.4 -15.4,-12.4
  text "1" at -5.79,-14.375 h2.03
  text "5" at 5.04,-14.375 h2.03
  text "9" at 3.655,-4.975 h2.03
  text "6" at -4.655,-4.975 h2.03

## DSUB1.385-2H9 - duplicate [mm]
pads (11):
  rect 1.69x1.69 hole 1.09: 1(-5.54,-10.92)
  round 1.69 hole 1.09: 2(-2.77,-10.92) 3(0,-10.92) 4(2.77,-10.92) 5(5.54,-10.92) 6(-4.155,-8.08) 7(-1.385,-8.08) 8(1.385,-8.08) 9(4.155,-8.08)
  round 4.76 hole 3.26: 10(-12.495,-9.5) 11(12.495,-9.5)
Top Overlay:
  lines w0.2: -15.4,-3 15.4,-3 ; -9.56,0.005 ccw(c-9.56,0.7) -8.865,0.7 -8.865,5.3 ; -8.86,5.305 cw(c-8.165,5.305) -8.165,6 8.165,6 cw(c8.165,5.305) 8.86,5.305 ; -7,-12.4 -7,-3 ; 7,-12.4 7,-3 ; 8.865,5.3 8.865,0.7 ccw(c9.56,0.7) 9.56,0.005 ; -15.4,-12.4 15.4,-12.4 15.4,0 -15.4,0 -15.4,-12.4
  text "6" at -4.655,-4.975 h2.03
  text "9" at 3.655,-4.975 h2.03
  text "5" at 5.842,-12.954 h2.03
  text "1" at -4.572,-12.954 h2.03

## DSUB1.385-2H9 - duplicate1 [mm]
pads (11):
  rect 1.69x1.69 hole 1.09: 1(-5.54,-10.92)
  round 1.69 hole 1.09: 2(-2.77,-10.92) 3(0,-10.92) 4(2.77,-10.92) 5(5.54,-10.92) 6(-4.155,-8.08) 7(-1.385,-8.08) 8(1.385,-8.08) 9(4.155,-8.08)
  round 4.76 hole 3.26: 10(-12.495,-9.5) 11(12.495,-9.5)
Top Overlay:
  lines w0.2: -15.4,-3 15.4,-3 ; -9.56,0.005 ccw(c-9.56,0.7) -8.865,0.7 -8.865,5.3 ; -8.86,5.305 cw(c-8.165,5.305) -8.165,6 8.165,6 cw(c8.165,5.305) 8.86,5.305 ; -7,-12.4 -7,-3 ; 7,-12.4 7,-3 ; 8.865,5.3 8.865,0.7 ccw(c9.56,0.7) 9.56,0.005 ; -15.4,-12.4 15.4,-12.4 15.4,0 -15.4,0 -15.4,-12.4
  text "6" at -4.655,-4.975 h2.03
  text "9" at 3.655,-4.975 h2.03
  text "5" at 5.842,-12.954 h2.03
  text "1" at -4.572,-12.954 h2.03